# Altium footprint library MELF.PcbLib: 1 footprints
Each footprint in its own frame and in the unit in brackets; x right, y up, seen from the top. Pads: shape width x height; smd on the part's side, far side on the other; paste and mask are expansions set on the pad; w line width, h text height; cw(c..) or ccw(c..) is an arc to the next point about the centre after c.
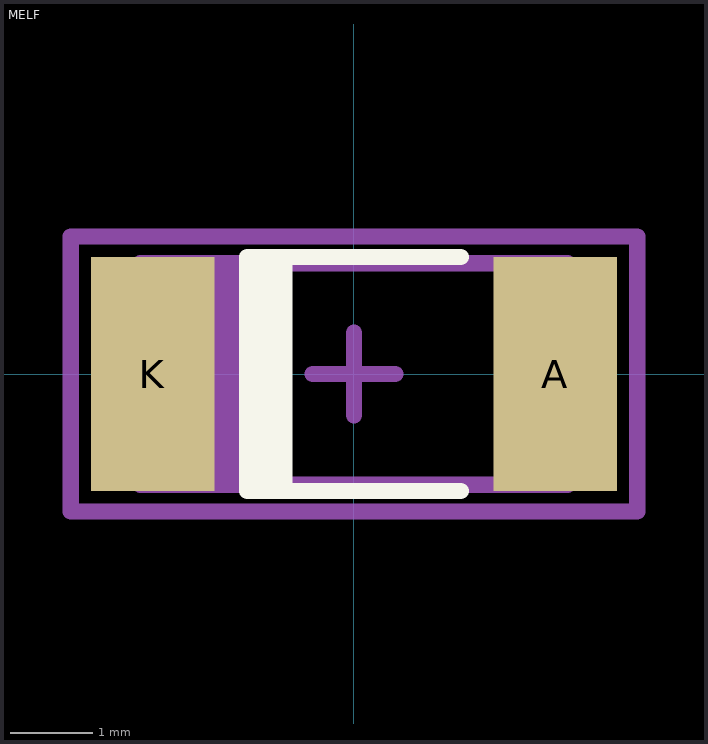
[diagram p0: the footprint, top view; thin cyan lines are the x and y axes]

## MELF [mm] "MELF Diode, 2-Leads, Body 5,0x2,6mm, IPC Medium Density"
height 2.7
pads (2):
  rect 1.5x2.85 smd: A(2.45,0) K(-2.45,0)
Top Overlay:
  rectangle: -1.3,-1.425 -0.75,1.425
  lines w0.2: 1.3,-1.425 -1.3,-1.425 -1.3,1.425 1.3,1.425
Mechanical 13:
  rectangle: -2.6,-1.35 -1.397,1.35
  lines w0.2: -2.6,-1.35 2.6,-1.35 2.6,1.35 -2.6,1.35 -2.6,-1.35
  text ".Designator" at -0.381,-0.508 h1.52
Mechanical 15:
  lines w0.2: -0.5,0 0.5,0 ; 0,-0.5 0,0.5 ; -3.45,-1.675 3.45,-1.675 3.45,1.675 -3.45,1.675 -3.45,-1.675
3D body: height 2.35, standoff -0.15, extent -2.5,-1.25 2.5,1.25